# Altium footprint library VSSOP-8_EP_3x3x065P.PcbLib: 1 footprints
Each footprint in its own frame and in the unit in brackets; x right, y up, seen from the top. Pads: shape width x height; smd on the part's side, far side on the other; paste and mask are expansions set on the pad; w line width, h text height; cw(c..) or ccw(c..) is an arc to the next point about the centre after c.
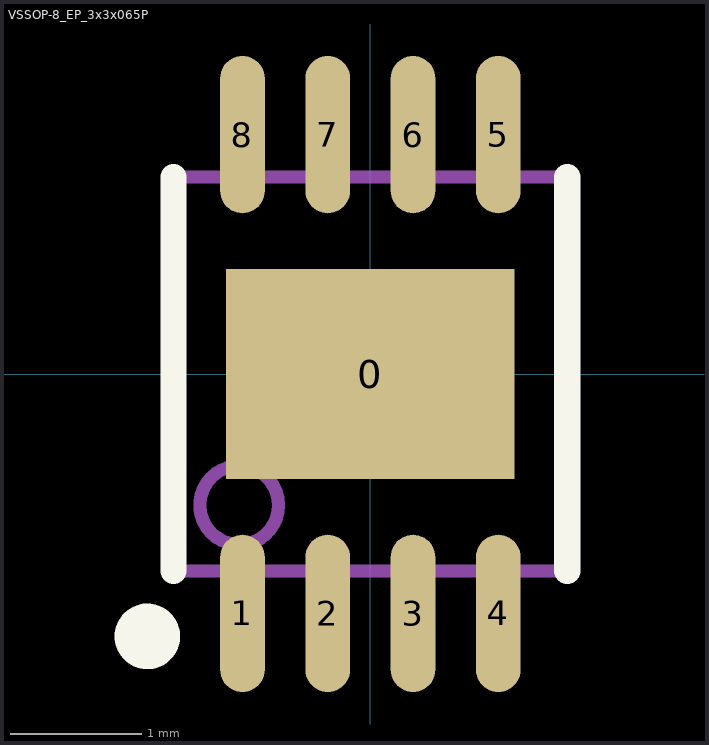
[diagram p0: the footprint, top view; thin cyan lines are the x and y axes]

## VSSOP-8_EP_3x3x065P [mm]
pads (9):
  rect 2.2x1.6 smd mask+0.051: 0(0,0)
  oval 0.34x1.2 smd: 1(-0.975,-1.825) 2(-0.325,-1.825) 3(0.325,-1.825) 4(0.975,-1.825) 5(0.975,1.825) 6(0.325,1.825) 7(-0.325,1.825) 8(-0.975,1.825)
Top Overlay:
  circle w0.25: c-1.7,-2 r0.125
  lines w0.2: -1.5,-1.5 -1.5,1.5 ; 1.5,-1.5 1.5,1.5
Mechanical 13:
  circle w0.1: c-1,-1 r0.3
  lines w0.1: -1.5,-1.5 -1.5,1.5 1.5,1.5 1.5,-1.5 -1.5,-1.5